# Altium footprint library PulseElectronics.PcbLib: 1 footprints
Each footprint in its own frame and in the unit in brackets; x right, y up, seen from the top. Pads: shape width x height; smd on the part's side, far side on the other; paste and mask are expansions set on the pad; w line width, h text height; cw(c..) or ccw(c..) is an arc to the next point about the centre after c.
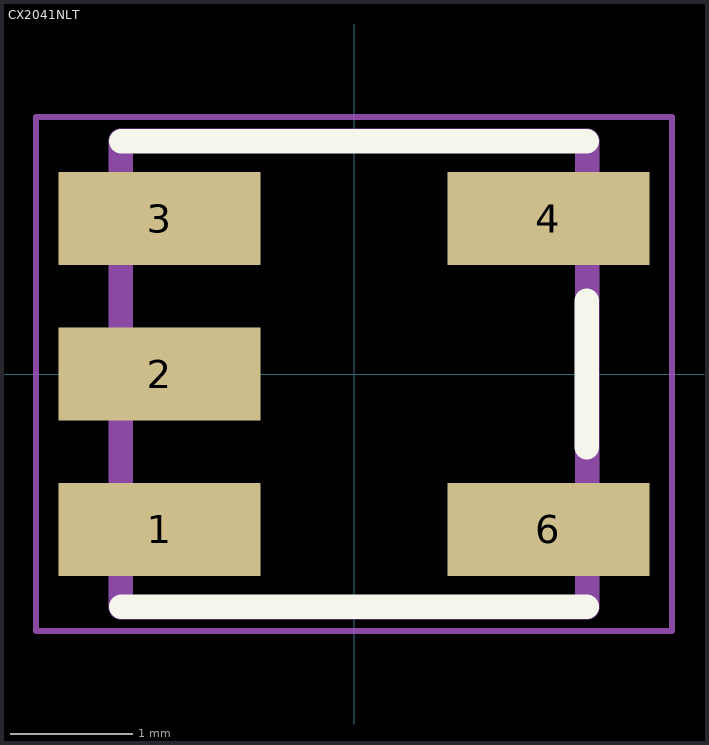
[diagram p0: the footprint, top view; thin cyan lines are the x and y axes]

## CX2041NLT [mil]
pads (5):
  rect 65x30 smd: 1(-62.5,-50) 2(-62.5,0) 3(-62.5,50) 4(62.5,50) 6(62.5,-50)
Top Overlay:
  lines w7.87: -74.8,-74.8 74.8,-74.8 ; -74.8,74.8 74.8,74.8 ; 74.8,-23.62 74.8,23.62
Mechanical 13:
  lines w7.87: -75,-75 75,-75 75,75 -75,75 -75,-75
Mechanical 15:
  lines w1.97: -102.36,-82.68 -102.36,82.68 102.36,82.68 102.36,-82.68 -102.36,-82.68
  text ".Designator" at -86.61,-7.87 h39.37
3D body "User Library-RF Transformer SMD.step": height 110.7, standoff 0, extent -75.7,-75 75.7,74.99